# Altium schematic symbol library TPD4E001DRLRG4.SchLib: 1 symbol
Pins are listed as number, name and electrical type; pins without a type are passive.

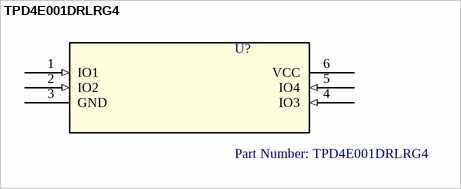
[diagram p0: symbol TPD4E001DRLRG4]

## TPD4E001DRLRG4
designator U?, comment Part Number: TPD4E001DRLRG4
No Description Available; Vendor: Texas Instruments; Built_By: EMA_UL_Team; Manufacturer_Part_Number: TPD4E001DRLRG4; Copyright: Copyright (C) 2018 Accelerated Designs. All rights reserved; RefDes: RefDes; Type: DEV; Value: Value
footprint TPD4E001DRLRG4
pins: 1 IO1 (in), 2 IO2 (in), 3 GND (power), 4 IO3 (in), 5 IO4 (in), 6 VCC (power)